# Altium footprint library custom_push_button.PcbLib: 1 footprints
Each footprint in its own frame and in the unit in brackets; x right, y up, seen from the top. Pads: shape width x height; smd on the part's side, far side on the other; paste and mask are expansions set on the pad; w line width, h text height; cw(c..) or ccw(c..) is an arc to the next point about the centre after c.
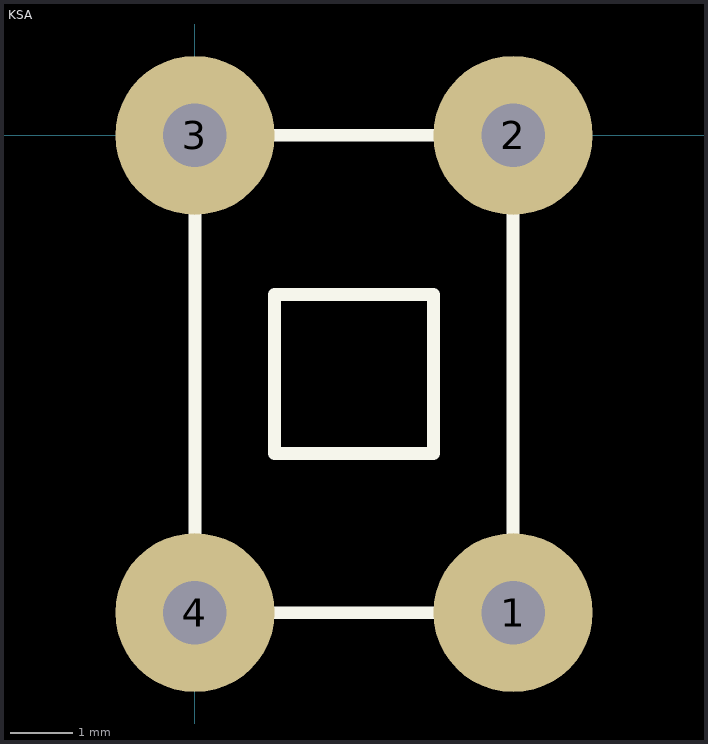
[diagram p0: the footprint, top view; thin cyan lines are the x and y axes]

## KSA [mil]
pads (4):
  round 100 hole 40: 1(200,-300) 2(200,0) 3(0,0) 4(0,-300)
Top Overlay:
  lines w8: 0,-300 0,0 200,0 200,-300 0,-300 ; 50,-200 50,-100 150,-100 150,-200 50,-200
3D body "PTS645SL502LFS--3DModel-STEP-269445.STEP": height 196.85, standoff -137.8, extent -18.11,-305.51 218.11,5.39